# Altium schematic symbol library Modules.SchLib: 7 symbols
Pins are listed as number, name and electrical type; pins without a type are passive.

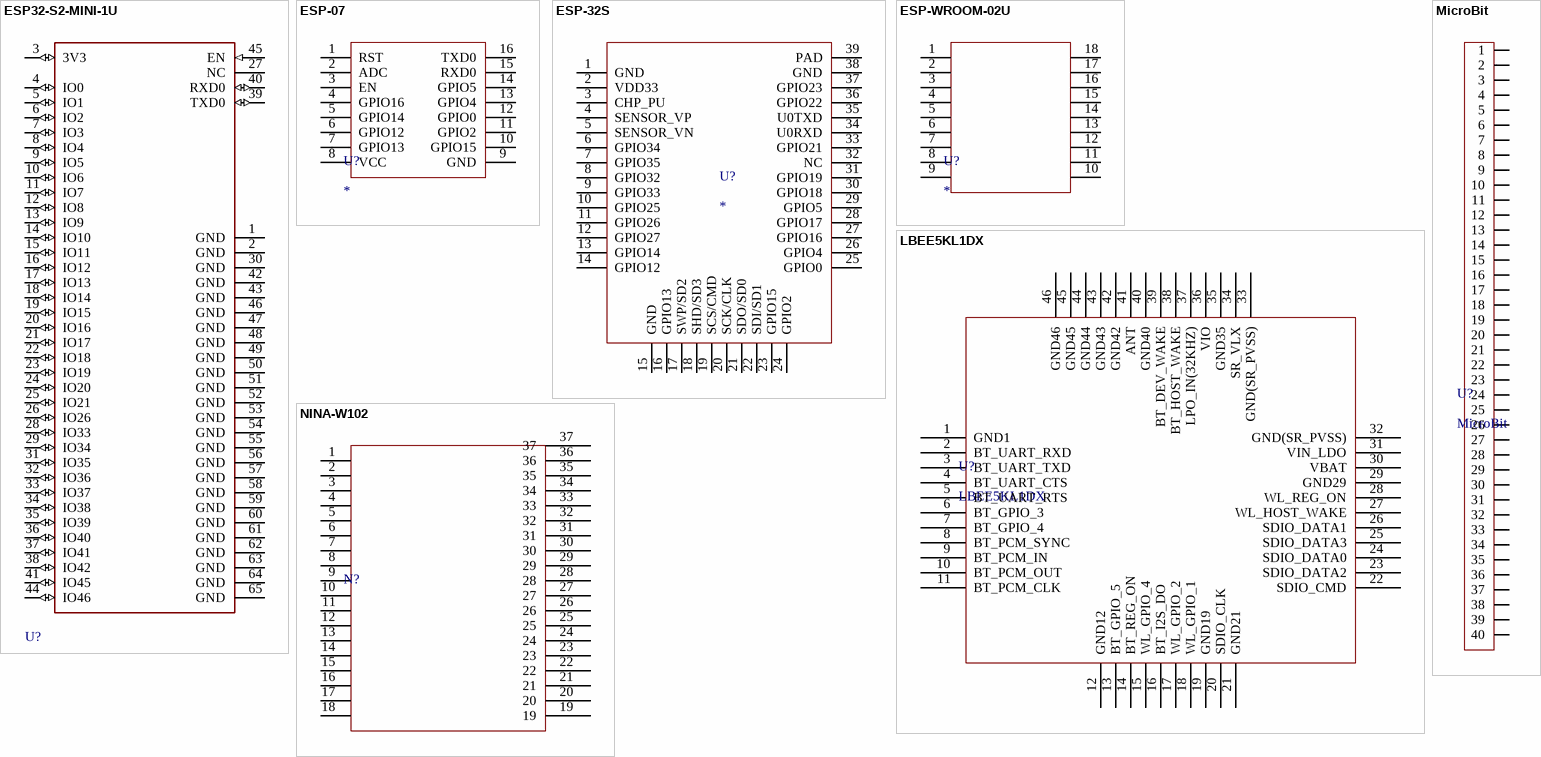
[diagram p0: symbols ESP32-S2-MINI-1U to NINA-W102]

## ESP32-S2-MINI-1U
designator U?  (value not drawn)
footprint Espressif_Systems_0_MFG
pins: 1 GND (power), 2 GND (power), 3 3V3 (io), 4 IO0 (io), 5 IO1 (io), 6 IO2 (io), 7 IO3 (io), 8 IO4 (io), 9 IO5 (io), 10 IO6 (io), 11 IO7 (io), 12 IO8 (io), 13 IO9 (io), 14 IO10 (io), 15 IO11 (io), 16 IO12 (io), 17 IO13 (io), 18 IO14 (io), 19 IO15 (io), 20 IO16 (io), 21 IO17 (io), 22 IO18 (io), 23 IO19 (io), 24 IO20 (io), 25 IO21 (io), 26 IO26 (io), 27 NC, 28 IO33 (io), 29 IO34 (io), 30 GND (power), 31 IO35 (io), 32 IO36 (io), 33 IO37 (io), 34 IO38 (io), 35 IO39 (io), 36 IO40 (io), 37 IO41 (io), 38 IO42 (io), 39 TXD0 (io), 40 RXD0 (io), 41 IO45 (io), 42 GND (power), 43 GND (power), 44 IO46 (io), 45 EN (in), 46 GND (power), 47 GND (power), 48 GND (power), 49 GND (power), 50 GND (power), 51 GND (power), 52 GND (power), 53 GND (power), 54 GND (power), 55 GND (power), 56 GND (power), 57 GND (power), 58 GND (power), 59 GND (power), 60 GND (power), 61 GND (power), 62 GND (power), 63 GND (power), 64 GND (power), 65 GND (power)

## ESP-07
designator U?
wifi module
footprint ESP-07
footprint ESP-07S
pins: 1 RST, 2 ADC, 3 EN, 4 GPIO16, 5 GPIO14, 6 GPIO12, 7 GPIO13, 8 VCC, 9 GND, 10 GPIO15, 11 GPIO2, 12 GPIO0, 13 GPIO4, 14 GPIO5, 15 RXD0, 16 TXD0

## ESP-32S
designator U?
footprint ESP-32S
footprint ESP32-WROOM-32U
pins: 1 GND, 2 VDD33, 3 CHP_PU, 4 SENSOR_VP, 5 SENSOR_VN, 6 GPIO34, 7 GPIO35, 8 GPIO32, 9 GPIO33, 10 GPIO25, 11 GPIO26, 12 GPIO27, 13 GPIO14, 14 GPIO12, 15 GND, 16 GPIO13, 17 SWP/SD2, 18 SHD/SD3, 19 SCS/CMD, 20 SCK/CLK, 21 SDO/SD0, 22 SDI/SD1, 23 GPIO15, 24 GPIO2, 25 GPIO0, 26 GPIO4, 27 GPIO16, 28 GPIO17, 29 GPIO5, 30 GPIO18, 31 GPIO19, 32 NC, 33 GPIO21, 34 U0RXD, 35 U0TXD, 36 GPIO22, 37 GPIO23, 38 GND, 39 PAD

## ESP-WROOM-02U
designator U?
ESP-WROOM-02U WIFI module
footprint ESP-WROOM-02U (wifi module)
pins: 1, 2, 3, 4, 5, 6, 7, 8, 9, 10, 11, 12, 13, 14, 15, 16, 17, 18

## LBEE5KL1DX
designator U?
footprint LBEE5KL1DX
pins: 1 GND1, 2 BT_UART_RXD, 3 BT_UART_TXD, 4 BT_UART_CTS, 5 BT_UART_RTS, 6 BT_GPIO_3, 7 BT_GPIO_4, 8 BT_PCM_SYNC, 9 BT_PCM_IN, 10 BT_PCM_OUT, 11 BT_PCM_CLK, 12 GND12, 13 BT_GPIO_5, 14 BT_REG_ON, 15 WL_GPIO_4, 16 BT_I2S_DO, 17 WL_GPIO_2, 18 WL_GPIO_1, 19 GND19, 20 SDIO_CLK, 21 GND21, 22 SDIO_CMD, 23 SDIO_DATA2, 24 SDIO_DATA0, 25 SDIO_DATA3, 26 SDIO_DATA1, 27 WL_HOST_WAKE, 28 WL_REG_ON, 29 GND29, 30 VBAT, 31 VIN_LDO, 32 GND(SR_PVSS), 33 GND(SR_PVSS), 34 SR_VLX, 35 GND35, 36 VIO, 37 LPO_IN(32KHZ), 38 BT_HOST_WAKE, 39 BT_DEV_WAKE, 40 GND40, 41 ANT, 42 GND42, 43 GND43, 44 GND44, 45 GND45, 46 GND46

## MicroBit
designator U?
footprint MicroBit
pins: 1, 2, 3, 4, 5, 6, 7, 8, 9, 10, 11, 12, 13, 14, 15, 16, 17, 18, 19, 20, 21, 22, 23, 24, 25, 26, 27, 28, 29, 30, 31, 32, 33, 34, 35, 36, 37, 38, 39, 40

## NINA-W102
designator N?  (value not drawn)
footprint NINA-W102
pins: 1, 2, 3, 4, 5, 6, 7, 8, 9, 10, 11, 12, 13, 14, 15, 16, 17, 18, 19, 20, 21, 22, 23, 24, 25, 26, 27, 28, 29, 30, 31, 32, 33, 34, 35, 36, 37